# Altium footprint library PcbLib1.PcbLib: 98 footprints (part 7 of 7)
Each footprint in its own frame and in the unit in brackets; x right, y up, seen from the top. Pads: shape width x height; smd on the part's side, far side on the other; paste and mask are expansions set on the pad; w line width, h text height; cw(c..) or ccw(c..) is an arc to the next point about the centre after c.
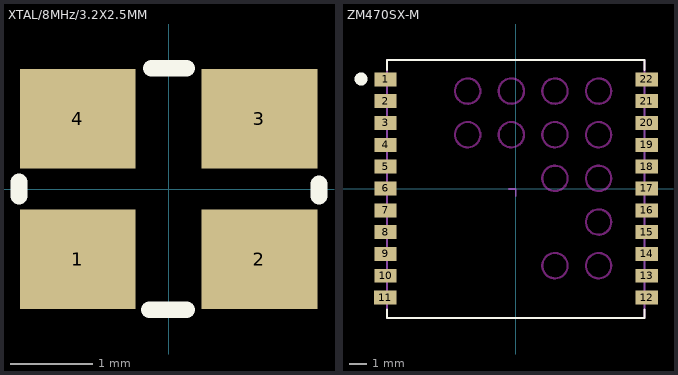
[diagram p6: the footprints below, top view; thin cyan lines are the x and y axes]

## XTAL/8MHz/3.2X2.5MM [mm]
pads (4):
  rect 1.4x1.2 smd: 1(-1.1,-0.85) 2(1.1,-0.85) 3(1.1,0.85) 4(-1.1,0.85)
Top Overlay:
  lines w0.2: -1.811,-0.088 -1.811,0.09 ; -0.236,-1.46 0.221,-1.46 ; -0.211,1.461 0.221,1.461 ; 1.821,-0.088 1.821,0.064

## ZM470SX-M [mil]
pads (22):
  rect 51.18x32 smd paste-19.68: 1(-298.29,251.28) 2(-298.29,201.28) 3(-298.29,151.28) 4(-298.29,101.28) 5(-298.29,51.28) 6(-298.29,1.28) 7(-298.29,-48.72) 8(-298.29,-98.72) 9(-298.29,-148.72) 10(-298.29,-198.72) 12(300.28,-248.72) 13(300.28,-198.72) 14(300.28,-148.72) 15(300.28,-98.72) 16(300.28,-48.72) 17(300.28,1.28) 18(300.28,51.28) 19(300.28,101.28) 20(300.28,151.28) 21(300.28,201.28) 22(300.28,251.28)
  rect 52x32 smd paste-19.68: 11(-298.7,-248.72)
Top Layer keep-out:
  circle w5: c189.84,224.34 r29.05
  circle w5: c89.84,224.34 r29.05
  circle w5: c-10.16,224.34 r29.05
  circle w5: c-110.16,224.34 r29.05
  circle w5: c-110.16,124.34 r29.05
  circle w5: c-10.16,124.34 r29.05
  circle w5: c89.84,124.34 r29.05
  circle w5: c189.84,124.34 r29.05
  circle w5: c89.84,24.34 r29.05
  circle w5: c189.84,24.34 r29.05
  circle w5: c189.84,-75.66 r29.05
  circle w5: c89.84,-175.66 r29.05
  circle w5: c189.84,-175.66 r29.05
Top Overlay:
  circle w15.75: c-354.33,251.97 r7.09
  lines w5: -295.28,-295.28 295.28,-295.28 -295.27,-295.28 -295.27,-276.16 ; 295.27,-295.28 295.27,-276.16 ; 295.27,-295.27 295.28,-276.16 ; 295.27,295.27 -295.28,295.27 -295.28,273.34 -295.28,295.28 295.27,295.28 ; 295.27,295.28 295.27,273.34 295.27,295.28
Mechanical 15:
  lines w4.5: -15.75,0 0,0 0,-15.75
  lines w5: -295.28,-295.28 295.27,-295.28 ; -295.28,-295.28 -295.28,295.27 -295.28,295.28 ; -295.28,-295.28 295.27,-295.28 ; -295.28,295.28 295.27,295.28 ; -295.28,295.28 -294.28,295.28 ; -294.28,295.28 295.27,295.28 ; -294.28,295.28 -294.28,295.28 ; 295.27,-295.28 295.27,295.28